# Altium schematic symbol library SparkFun-Connectors.SCHLIB: 462 symbols (part 11 of 13)
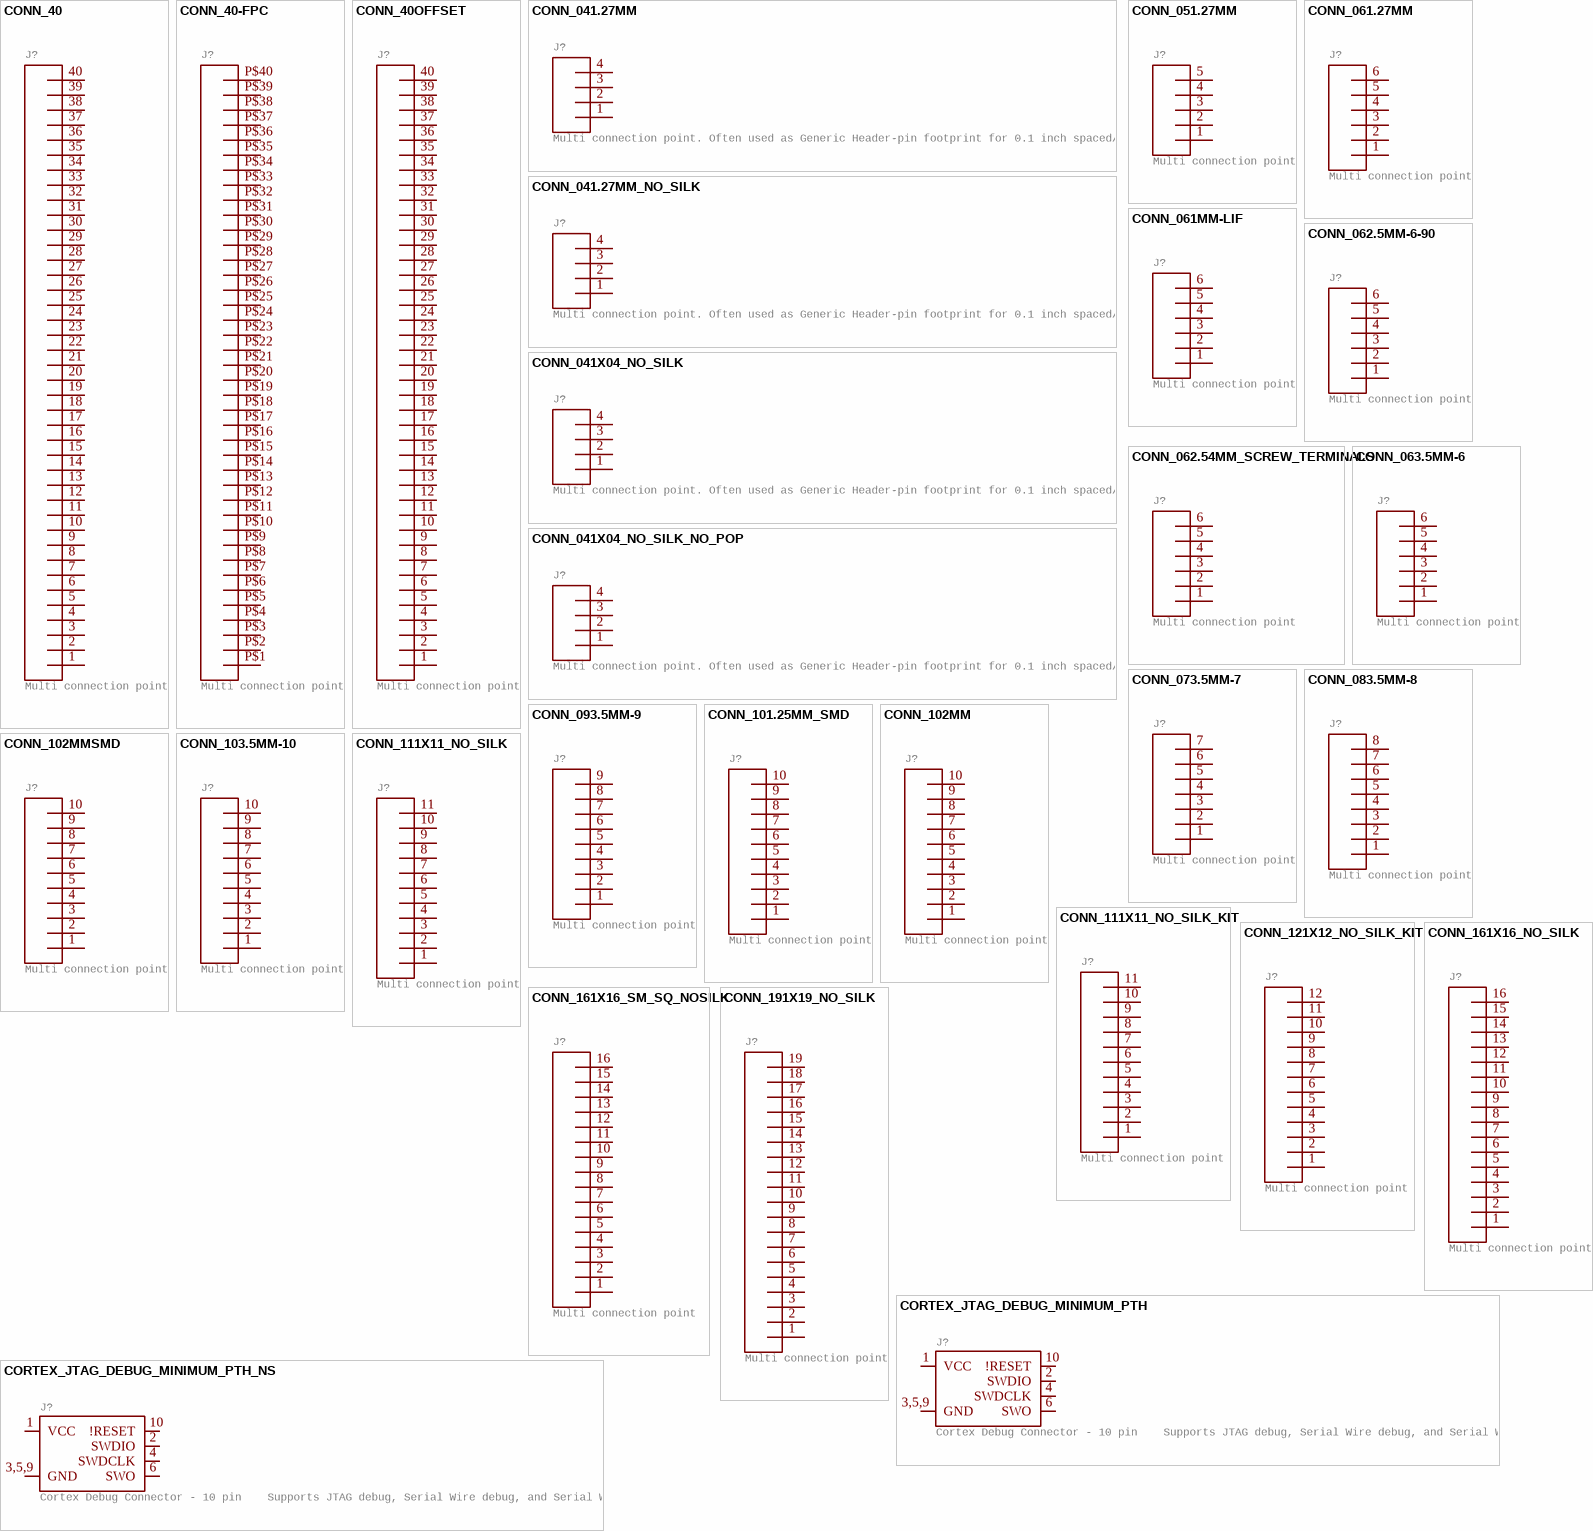
[diagram p32: symbols CONN_40 to CORTEX_JTAG_DEBUG_MINIMUM_PTH_NS]

## CONN_083.5MM-8
designator J?, comment Multi connection point. Often used as Generic Header-pin footprint for 0.1 inch spaced/style header connections    On any of the 0.1 inch spaced packages, you can populate with these:  Break Away Headers - Straight (PRT-00116)   Break Away Male Headers - Right Angle (PRT-00553)   Female Headers (PRT-00115)   Break Away Headers - Machine Pin (PRT-00117)   Break Away Female Headers - Swiss Machine Pin (PRT-00743)   Arduino Stackable Header - 8 Pin (PRT-09279)        For SCREWTERMINALS and SPRING TERMINALS visit here:  Screw Terimnals on SparkFun.com (5mm/3.5mm/2.54mm spacing)       This device is also useful as a general connection point to wire up your design to another part of your project. Our various solder wires solder well into these plated through hole pads.  Hook-Up Wire - Assortment (Stranded, 22 AWG) (PRT-11375)   Hook-Up Wire - Assortment (Solid Core, 22 AWG) (PRT-11367)   View the entire wire category on our website here          Special notes:     Molex polarized connector foot print use with SKU : PRT-08231 with associated crimp pins and housings. 1MM SMD Version SKU: PRT-10208    NOTES ON THE VARIANTS LOCK and LOCK_LONGPADS... This footprint was designed to help hold the alignment of a through-hole component (i.e.  6-pin header) while soldering it into place. You may notice that each hole has been shifted either up or down by 0.005 of an inch from it's more standard position (which is a perfectly straight line).  This slight alteration caused the pins (the squares in the middle) to touch the edges of the holes.  Because they are alternating, it causes a "brace" to hold the component in place.  0.005 has proven to be the perfect amount of "off-center" position when using our standard breakaway headers. Although looks a little odd when you look at the bare footprint, once you have a header in there, the alteration is very hard to notice.  Also,if you push a header all the way into place, it is covered up entirely on the bottom side.
GateName_1: G$1; SymbolName_1: CONN_08; DeviceName: 3.5MM-8; PROD_ID: Combine 14485+14885; LibraryName: SparkFun-Connectors; DeviceSetName: CONN_08; Package: SCREWTERMINAL-3.5MM-8
footprint SCREWTERMINAL-3.5MM-8
pins: 1, 2, 3, 4, 5, 6, 7, 8

## CONN_093.5MM-9
designator J?, comment Multi connection point. Often used as Generic Header-pin footprint for 0.1 inch spaced/style header connections    On any of the 0.1 inch spaced packages, you can populate with these:  Break Away Headers - Straight (PRT-00116)   Break Away Male Headers - Right Angle (PRT-00553)   Female Headers (PRT-00115)   Break Away Headers - Machine Pin (PRT-00117)   Break Away Female Headers - Swiss Machine Pin (PRT-00743)        For SCREWTERMINALS and SPRING TERMINALS visit here:  Screw Terimnals on SparkFun.com (5mm/3.5mm/2.54mm spacing)       This device is also useful as a general connection point to wire up your design to another part of your project. Our various solder wires solder well into these plated through hole pads.  Hook-Up Wire - Assortment (Stranded, 22 AWG) (PRT-11375)   Hook-Up Wire - Assortment (Solid Core, 22 AWG) (PRT-11367)   View the entire wire category on our website here          Special notes:     Molex polarized connector foot print use with SKU : PRT-08231 with associated crimp pins and housings. 1MM SMD Version SKU: PRT-10208    NOTES ON THE VARIANTS LOCK and LOCK_LONGPADS... This footprint was designed to help hold the alignment of a through-hole component (i.e.  6-pin header) while soldering it into place. You may notice that each hole has been shifted either up or down by 0.005 of an inch from it's more standard position (which is a perfectly straight line).  This slight alteration caused the pins (the squares in the middle) to touch the edges of the holes.  Because they are alternating, it causes a "brace" to hold the component in place.  0.005 has proven to be the perfect amount of "off-center" position when using our standard breakaway headers. Although looks a little odd when you look at the bare footprint, once you have a header in there, the alteration is very hard to notice.  Also,if you push a header all the way into place, it is covered up entirely on the bottom side.
GateName_1: J1; SymbolName_1: CONN_09; DeviceName: 3.5MM-9; PROD_ID: Combine 13617+8288; LibraryName: SparkFun-Connectors; DeviceSetName: CONN_09; Package: SCREWTERMINAL-3.5MM-9
footprint SCREWTERMINAL-3.5MM-9
pins: 1, 2, 3, 4, 5, 6, 7, 8, 9

## CONN_101.25MM_SMD
designator J?, comment Multi connection point. Often used as Generic Header-pin footprint for 0.1 inch spaced/style header connections    On any of the 0.1 inch spaced packages, you can populate with these:  Break Away Headers - Straight (PRT-00116)   Break Away Male Headers - Right Angle (PRT-00553)   Female Headers (PRT-00115)   Break Away Headers - Machine Pin (PRT-00117)   Break Away Female Headers - Swiss Machine Pin (PRT-00743)   Arduino Stackable Header - 10 Pin (PRT-11376)        For SCREWTERMINALS and SPRING TERMINALS visit here:  Screw Terimnals on SparkFun.com (5mm/3.5mm/2.54mm spacing)       This device is also useful as a general connection point to wire up your design to another part of your project. Our various solder wires solder well into these plated through hole pads.  Hook-Up Wire - Assortment (Stranded, 22 AWG) (PRT-11375)   Hook-Up Wire - Assortment (Solid Core, 22 AWG) (PRT-11367)   View the entire wire category on our website here          Special notes:     Molex polarized connector foot print use with SKU : PRT-08231 with associated crimp pins and housings. 1MM SMD Version SKU: PRT-10208    NOTES ON THE VARIANTS LOCK and LOCK_LONGPADS... This footprint was designed to help hold the alignment of a through-hole component (i.e.  6-pin header) while soldering it into place. You may notice that each hole has been shifted either up or down by 0.005 of an inch from it's more standard position (which is a perfectly straight line).  This slight alteration caused the pins (the squares in the middle) to touch the edges of the holes.  Because they are alternating, it causes a "brace" to hold the component in place.  0.005 has proven to be the perfect amount of "off-center" position when using our standard breakaway headers. Although looks a little odd when you look at the bare footprint, once you have a header in there, the alteration is very hard to notice.  Also,if you push a header all the way into place, it is covered up entirely on the bottom side.
GateName_1: J1; SymbolName_1: CONN_10; DeviceName: 1.25MM_SMD; LibraryName: SparkFun-Connectors; DeviceSetName: CONN_10; Package: 1X10-1.25MM-SMD
footprint 1X10-1.25MM-SMD
pins: 1, 2, 3, 4, 5, 6, 7, 8, 9, 10

## CONN_102MM
designator J?, comment Multi connection point. Often used as Generic Header-pin footprint for 0.1 inch spaced/style header connections    On any of the 0.1 inch spaced packages, you can populate with these:  Break Away Headers - Straight (PRT-00116)   Break Away Male Headers - Right Angle (PRT-00553)   Female Headers (PRT-00115)   Break Away Headers - Machine Pin (PRT-00117)   Break Away Female Headers - Swiss Machine Pin (PRT-00743)   Arduino Stackable Header - 10 Pin (PRT-11376)        For SCREWTERMINALS and SPRING TERMINALS visit here:  Screw Terimnals on SparkFun.com (5mm/3.5mm/2.54mm spacing)       This device is also useful as a general connection point to wire up your design to another part of your project. Our various solder wires solder well into these plated through hole pads.  Hook-Up Wire - Assortment (Stranded, 22 AWG) (PRT-11375)   Hook-Up Wire - Assortment (Solid Core, 22 AWG) (PRT-11367)   View the entire wire category on our website here          Special notes:     Molex polarized connector foot print use with SKU : PRT-08231 with associated crimp pins and housings. 1MM SMD Version SKU: PRT-10208    NOTES ON THE VARIANTS LOCK and LOCK_LONGPADS... This footprint was designed to help hold the alignment of a through-hole component (i.e.  6-pin header) while soldering it into place. You may notice that each hole has been shifted either up or down by 0.005 of an inch from it's more standard position (which is a perfectly straight line).  This slight alteration caused the pins (the squares in the middle) to touch the edges of the holes.  Because they are alternating, it causes a "brace" to hold the component in place.  0.005 has proven to be the perfect amount of "off-center" position when using our standard breakaway headers. Although looks a little odd when you look at the bare footprint, once you have a header in there, the alteration is very hard to notice.  Also,if you push a header all the way into place, it is covered up entirely on the bottom side.
GateName_1: J1; SymbolName_1: CONN_10; DeviceName: 2MM; PROD_ID: CONN-08875; SF_ID: PRT-08272; LibraryName: SparkFun-Connectors; DeviceSetName: CONN_10; Package: 1X10-2MM
footprint 1X10-2MM
pins: 1, 2, 3, 4, 5, 6, 7, 8, 9, 10

## CONN_102MMSMD
designator J?, comment Multi connection point. Often used as Generic Header-pin footprint for 0.1 inch spaced/style header connections    On any of the 0.1 inch spaced packages, you can populate with these:  Break Away Headers - Straight (PRT-00116)   Break Away Male Headers - Right Angle (PRT-00553)   Female Headers (PRT-00115)   Break Away Headers - Machine Pin (PRT-00117)   Break Away Female Headers - Swiss Machine Pin (PRT-00743)   Arduino Stackable Header - 10 Pin (PRT-11376)        For SCREWTERMINALS and SPRING TERMINALS visit here:  Screw Terimnals on SparkFun.com (5mm/3.5mm/2.54mm spacing)       This device is also useful as a general connection point to wire up your design to another part of your project. Our various solder wires solder well into these plated through hole pads.  Hook-Up Wire - Assortment (Stranded, 22 AWG) (PRT-11375)   Hook-Up Wire - Assortment (Solid Core, 22 AWG) (PRT-11367)   View the entire wire category on our website here          Special notes:     Molex polarized connector foot print use with SKU : PRT-08231 with associated crimp pins and housings. 1MM SMD Version SKU: PRT-10208    NOTES ON THE VARIANTS LOCK and LOCK_LONGPADS... This footprint was designed to help hold the alignment of a through-hole component (i.e.  6-pin header) while soldering it into place. You may notice that each hole has been shifted either up or down by 0.005 of an inch from it's more standard position (which is a perfectly straight line).  This slight alteration caused the pins (the squares in the middle) to touch the edges of the holes.  Because they are alternating, it causes a "brace" to hold the component in place.  0.005 has proven to be the perfect amount of "off-center" position when using our standard breakaway headers. Although looks a little odd when you look at the bare footprint, once you have a header in there, the alteration is very hard to notice.  Also,if you push a header all the way into place, it is covered up entirely on the bottom side.
GateName_1: J1; SymbolName_1: CONN_10; DeviceName: 2MMSMD; PROD_ID: CONN-09042; SF_ID: PRT-10030; LibraryName: SparkFun-Connectors; DeviceSetName: CONN_10; Package: 1X10-2MM-SMD
footprint 1X10-2MM-SMD
pins: 1, 2, 3, 4, 5, 6, 7, 8, 9, 10

## CONN_103.5MM-10
designator J?, comment Multi connection point. Often used as Generic Header-pin footprint for 0.1 inch spaced/style header connections    On any of the 0.1 inch spaced packages, you can populate with these:  Break Away Headers - Straight (PRT-00116)   Break Away Male Headers - Right Angle (PRT-00553)   Female Headers (PRT-00115)   Break Away Headers - Machine Pin (PRT-00117)   Break Away Female Headers - Swiss Machine Pin (PRT-00743)   Arduino Stackable Header - 10 Pin (PRT-11376)        For SCREWTERMINALS and SPRING TERMINALS visit here:  Screw Terimnals on SparkFun.com (5mm/3.5mm/2.54mm spacing)       This device is also useful as a general connection point to wire up your design to another part of your project. Our various solder wires solder well into these plated through hole pads.  Hook-Up Wire - Assortment (Stranded, 22 AWG) (PRT-11375)   Hook-Up Wire - Assortment (Solid Core, 22 AWG) (PRT-11367)   View the entire wire category on our website here          Special notes:     Molex polarized connector foot print use with SKU : PRT-08231 with associated crimp pins and housings. 1MM SMD Version SKU: PRT-10208    NOTES ON THE VARIANTS LOCK and LOCK_LONGPADS... This footprint was designed to help hold the alignment of a through-hole component (i.e.  6-pin header) while soldering it into place. You may notice that each hole has been shifted either up or down by 0.005 of an inch from it's more standard position (which is a perfectly straight line).  This slight alteration caused the pins (the squares in the middle) to touch the edges of the holes.  Because they are alternating, it causes a "brace" to hold the component in place.  0.005 has proven to be the perfect amount of "off-center" position when using our standard breakaway headers. Although looks a little odd when you look at the bare footprint, once you have a header in there, the alteration is very hard to notice.  Also,if you push a header all the way into place, it is covered up entirely on the bottom side.
GateName_1: J1; SymbolName_1: CONN_10; DeviceName: 3.5MM-10; PROD_ID: CONN-13177; LibraryName: SparkFun-Connectors; DeviceSetName: CONN_10; Package: SCREWTERMINAL-3.5MM-10
footprint SCREWTERMINAL-3.5MM-10
pins: 1, 2, 3, 4, 5, 6, 7, 8, 9, 10

## CONN_111X11_NO_SILK
designator J?, comment Multi connection point. Often used as Generic Header-pin footprint for 0.1 inch spaced/style header connections    On any of the 0.1 inch spaced packages, you can populate with these:  Break Away Headers - Straight (PRT-00116)   Break Away Male Headers - Right Angle (PRT-00553)   Female Headers (PRT-00115)   Break Away Headers - Machine Pin (PRT-00117)   Break Away Female Headers - Swiss Machine Pin (PRT-00743)        For SCREWTERMINALS and SPRING TERMINALS visit here:  Screw Terimnals on SparkFun.com (5mm/3.5mm/2.54mm spacing)       This device is also useful as a general connection point to wire up your design to another part of your project. Our various solder wires solder well into these plated through hole pads.  Hook-Up Wire - Assortment (Stranded, 22 AWG) (PRT-11375)   Hook-Up Wire - Assortment (Solid Core, 22 AWG) (PRT-11367)   View the entire wire category on our website here
GateName_1: G$1; SymbolName_1: CONN_11; DeviceName: 1X11_NO_SILK; LibraryName: SparkFun-Connectors; DeviceSetName: CONN_11; Package: 1X11_NO_SILK
footprint 1X11_NO_SILK
pins: 1, 2, 3, 4, 5, 6, 7, 8, 9, 10, 11

## CONN_111X11_NO_SILK_KIT
designator J?, comment Multi connection point. Often used as Generic Header-pin footprint for 0.1 inch spaced/style header connections    On any of the 0.1 inch spaced packages, you can populate with these:  Break Away Headers - Straight (PRT-00116)   Break Away Male Headers - Right Angle (PRT-00553)   Female Headers (PRT-00115)   Break Away Headers - Machine Pin (PRT-00117)   Break Away Female Headers - Swiss Machine Pin (PRT-00743)        For SCREWTERMINALS and SPRING TERMINALS visit here:  Screw Terimnals on SparkFun.com (5mm/3.5mm/2.54mm spacing)       This device is also useful as a general connection point to wire up your design to another part of your project. Our various solder wires solder well into these plated through hole pads.  Hook-Up Wire - Assortment (Stranded, 22 AWG) (PRT-11375)   Hook-Up Wire - Assortment (Solid Core, 22 AWG) (PRT-11367)   View the entire wire category on our website here
GateName_1: G$1; SymbolName_1: CONN_11; DeviceName: 1X11_NO_SILK_KIT; LibraryName: SparkFun-Connectors; DeviceSetName: CONN_11; Package: 1X11_NO_SILK_KIT
footprint 1X11_NO_SILK_KIT
pins: 1, 2, 3, 4, 5, 6, 7, 8, 9, 10, 11

## CONN_121X12_NO_SILK_KIT
designator J?, comment Multi connection point. Often used as Generic Header-pin footprint for 0.1 inch spaced/style header connections    On any of the 0.1 inch spaced packages, you can populate with these:  Break Away Headers - Straight (PRT-00116)   Break Away Male Headers - Right Angle (PRT-00553)   Female Headers (PRT-00115)   Break Away Headers - Machine Pin (PRT-00117)   Break Away Female Headers - Swiss Machine Pin (PRT-00743)        For SCREWTERMINALS and SPRING TERMINALS visit here:  Screw Terimnals on SparkFun.com (5mm/3.5mm/2.54mm spacing)       This device is also useful as a general connection point to wire up your design to another part of your project. Our various solder wires solder well into these plated through hole pads.  Hook-Up Wire - Assortment (Stranded, 22 AWG) (PRT-11375)   Hook-Up Wire - Assortment (Solid Core, 22 AWG) (PRT-11367)   View the entire wire category on our website here          Special notes:     Molex polarized connector foot print use with SKU : PRT-08231 with associated crimp pins and housings. 1MM SMD Version SKU: PRT-10208    NOTES ON THE VARIANTS LOCK and LOCK_LONGPADS... This footprint was designed to help hold the alignment of a through-hole component (i.e.  6-pin header) while soldering it into place. You may notice that each hole has been shifted either up or down by 0.005 of an inch from it's more standard position (which is a perfectly straight line).  This slight alteration caused the pins (the squares in the middle) to touch the edges of the holes.  Because they are alternating, it causes a "brace" to hold the component in place.  0.005 has proven to be the perfect amount of "off-center" position when using our standard breakaway headers. Although looks a little odd when you look at the bare footprint, once you have a header in there, the alteration is very hard to notice.  Also,if you push a header all the way into place, it is covered up entirely on the bottom side.
GateName_1: G$1; SymbolName_1: CONN_12; DeviceName: 1X12_NO_SILK_KIT; LibraryName: SparkFun-Connectors; DeviceSetName: CONN_12; Package: 1X12_NO_SILK_KIT
footprint 1X12_NO_SILK_KIT
pins: 1, 2, 3, 4, 5, 6, 7, 8, 9, 10, 11, 12

## CONN_161X16_NO_SILK
designator J?, comment Multi connection point. Often used as Generic Header-pin footprint for 0.1 inch spaced/style header connections    On any of the 0.1 inch spaced packages, you can populate with these:  Break Away Headers - Straight (PRT-00116)   Break Away Male Headers - Right Angle (PRT-00553)   Female Headers (PRT-00115)   Break Away Headers - Machine Pin (PRT-00117)   Break Away Female Headers - Swiss Machine Pin (PRT-00743)        For SCREWTERMINALS and SPRING TERMINALS visit here:  Screw Terimnals on SparkFun.com (5mm/3.5mm/2.54mm spacing)       This device is also useful as a general connection point to wire up your design to another part of your project. Our various solder wires solder well into these plated through hole pads.  Hook-Up Wire - Assortment (Stranded, 22 AWG) (PRT-11375)   Hook-Up Wire - Assortment (Solid Core, 22 AWG) (PRT-11367)   View the entire wire category on our website here          Special notes:     Molex polarized connector foot print use with SKU : PRT-08231 with associated crimp pins and housings. 1MM SMD Version SKU: PRT-10208    NOTES ON THE VARIANTS LOCK and LOCK_LONGPADS... This footprint was designed to help hold the alignment of a through-hole component (i.e.  6-pin header) while soldering it into place. You may notice that each hole has been shifted either up or down by 0.005 of an inch from it's more standard position (which is a perfectly straight line).  This slight alteration caused the pins (the squares in the middle) to touch the edges of the holes.  Because they are alternating, it causes a "brace" to hold the component in place.  0.005 has proven to be the perfect amount of "off-center" position when using our standard breakaway headers. Although looks a little odd when you look at the bare footprint, once you have a header in there, the alteration is very hard to notice.  Also,if you push a header all the way into place, it is covered up entirely on the bottom side.
GateName_1: G$1; SymbolName_1: CONN_16; DeviceName: 1X16_NO_SILK; LibraryName: SparkFun-Connectors; DeviceSetName: CONN_16; Package: 1X16_NO_SILK
footprint 1X16_NO_SILK
pins: 1, 2, 3, 4, 5, 6, 7, 8, 9, 10, 11, 12, 13, 14, 15, 16

## CONN_161X16_SM_SQ_NOSILK
designator J?, comment Multi connection point. Often used as Generic Header-pin footprint for 0.1 inch spaced/style header connections    On any of the 0.1 inch spaced packages, you can populate with these:  Break Away Headers - Straight (PRT-00116)   Break Away Male Headers - Right Angle (PRT-00553)   Female Headers (PRT-00115)   Break Away Headers - Machine Pin (PRT-00117)   Break Away Female Headers - Swiss Machine Pin (PRT-00743)        For SCREWTERMINALS and SPRING TERMINALS visit here:  Screw Terimnals on SparkFun.com (5mm/3.5mm/2.54mm spacing)       This device is also useful as a general connection point to wire up your design to another part of your project. Our various solder wires solder well into these plated through hole pads.  Hook-Up Wire - Assortment (Stranded, 22 AWG) (PRT-11375)   Hook-Up Wire - Assortment (Solid Core, 22 AWG) (PRT-11367)   View the entire wire category on our website here          Special notes:     Molex polarized connector foot print use with SKU : PRT-08231 with associated crimp pins and housings. 1MM SMD Version SKU: PRT-10208    NOTES ON THE VARIANTS LOCK and LOCK_LONGPADS... This footprint was designed to help hold the alignment of a through-hole component (i.e.  6-pin header) while soldering it into place. You may notice that each hole has been shifted either up or down by 0.005 of an inch from it's more standard position (which is a perfectly straight line).  This slight alteration caused the pins (the squares in the middle) to touch the edges of the holes.  Because they are alternating, it causes a "brace" to hold the component in place.  0.005 has proven to be the perfect amount of "off-center" position when using our standard breakaway headers. Although looks a little odd when you look at the bare footprint, once you have a header in there, the alteration is very hard to notice.  Also,if you push a header all the way into place, it is covered up entirely on the bottom side.
GateName_1: G$1; SymbolName_1: CONN_16; DeviceName: 1X16_SM_SQ_NOSILK; LibraryName: SparkFun-Connectors; DeviceSetName: CONN_16; Package: 1X16_SM_SQ_NOSILK
footprint 1X16_SM_SQ_NOSILK
pins: 1, 2, 3, 4, 5, 6, 7, 8, 9, 10, 11, 12, 13, 14, 15, 16

## CONN_191X19_NO_SILK
designator J?, comment Multi connection point. Often used as Generic Header-pin footprint for 0.1 inch spaced/style header connections    On any of the 0.1 inch spaced packages, you can populate with these:  Break Away Headers - Straight (PRT-00116)   Break Away Male Headers - Right Angle (PRT-00553)   Female Headers (PRT-00115)   Break Away Headers - Machine Pin (PRT-00117)   Break Away Female Headers - Swiss Machine Pin (PRT-00743)        For SCREWTERMINALS and SPRING TERMINALS visit here:  Screw Terimnals on SparkFun.com (5mm/3.5mm/2.54mm spacing)       This device is also useful as a general connection point to wire up your design to another part of your project. Our various solder wires solder well into these plated through hole pads.  Hook-Up Wire - Assortment (Stranded, 22 AWG) (PRT-11375)   Hook-Up Wire - Assortment (Solid Core, 22 AWG) (PRT-11367)   View the entire wire category on our website here          Special notes:     Molex polarized connector foot print use with SKU : PRT-08231 with associated crimp pins and housings. 1MM SMD Version SKU: PRT-10208    NOTES ON THE VARIANTS LOCK and LOCK_LONGPADS... This footprint was designed to help hold the alignment of a through-hole component (i.e.  6-pin header) while soldering it into place. You may notice that each hole has been shifted either up or down by 0.005 of an inch from it's more standard position (which is a perfectly straight line).  This slight alteration caused the pins (the squares in the middle) to touch the edges of the holes.  Because they are alternating, it causes a "brace" to hold the component in place.  0.005 has proven to be the perfect amount of "off-center" position when using our standard breakaway headers. Although looks a little odd when you look at the bare footprint, once you have a header in there, the alteration is very hard to notice.  Also,if you push a header all the way into place, it is covered up entirely on the bottom side.
GateName_1: G$1; SymbolName_1: CONN_19; DeviceName: 1X19_NO_SILK; LibraryName: SparkFun-Connectors; DeviceSetName: CONN_19; Package: 1X19_NO_SILK
footprint 1X19_NO_SILK
pins: 1, 2, 3, 4, 5, 6, 7, 8, 9, 10, 11, 12, 13, 14, 15, 16, 17, 18, 19

## CORTEX_JTAG_DEBUG_MINIMUM_PTH
designator J?, comment Cortex Debug Connector - 10 pin    Supports JTAG debug, Serial Wire debug, and Serial Wire Viewer. PTH and SMD connector options available.    General Connector Information    Products: PTH Connector -via Digi-Key  SparkFun PSoc  SparkFun T
GateName_1: G$1; SymbolName_1: CORTEX_DEBUG_MINIMUM; DeviceName: _PTH; DeviceSetName: CORTEX_JTAG_DEBUG_MINIMUM; LibraryName: SparkFun-Connectors; Package: 2X5-PTH-1.27MM
footprint 2X5-PTH-1.27MM
pins: 1 VCC (io), 2 SWDIO (io), 3,5,9 GND (io), 4 SWDCLK (io), 6 SWO (io), 10 !RESET (io)

## CORTEX_JTAG_DEBUG_MINIMUM_PTH_NS
designator J?, comment Cortex Debug Connector - 10 pin    Supports JTAG debug, Serial Wire debug, and Serial Wire Viewer. PTH and SMD connector options available.    General Connector Information    Products: PTH Connector -via Digi-Key  SparkFun PSoc  SparkFun T
GateName_1: G$1; SymbolName_1: CORTEX_DEBUG_MINIMUM; DeviceName: _PTH_NS; DeviceSetName: CORTEX_JTAG_DEBUG_MINIMUM; LibraryName: SparkFun-Connectors; Package: 2X5-PTH-1.27MM-NO_SILK
footprint 2X5-PTH-1.27MM-NO_SILK
pins: 1 VCC (io), 2 SWDIO (io), 3,5,9 GND (io), 4 SWDCLK (io), 6 SWO (io), 10 !RESET (io)

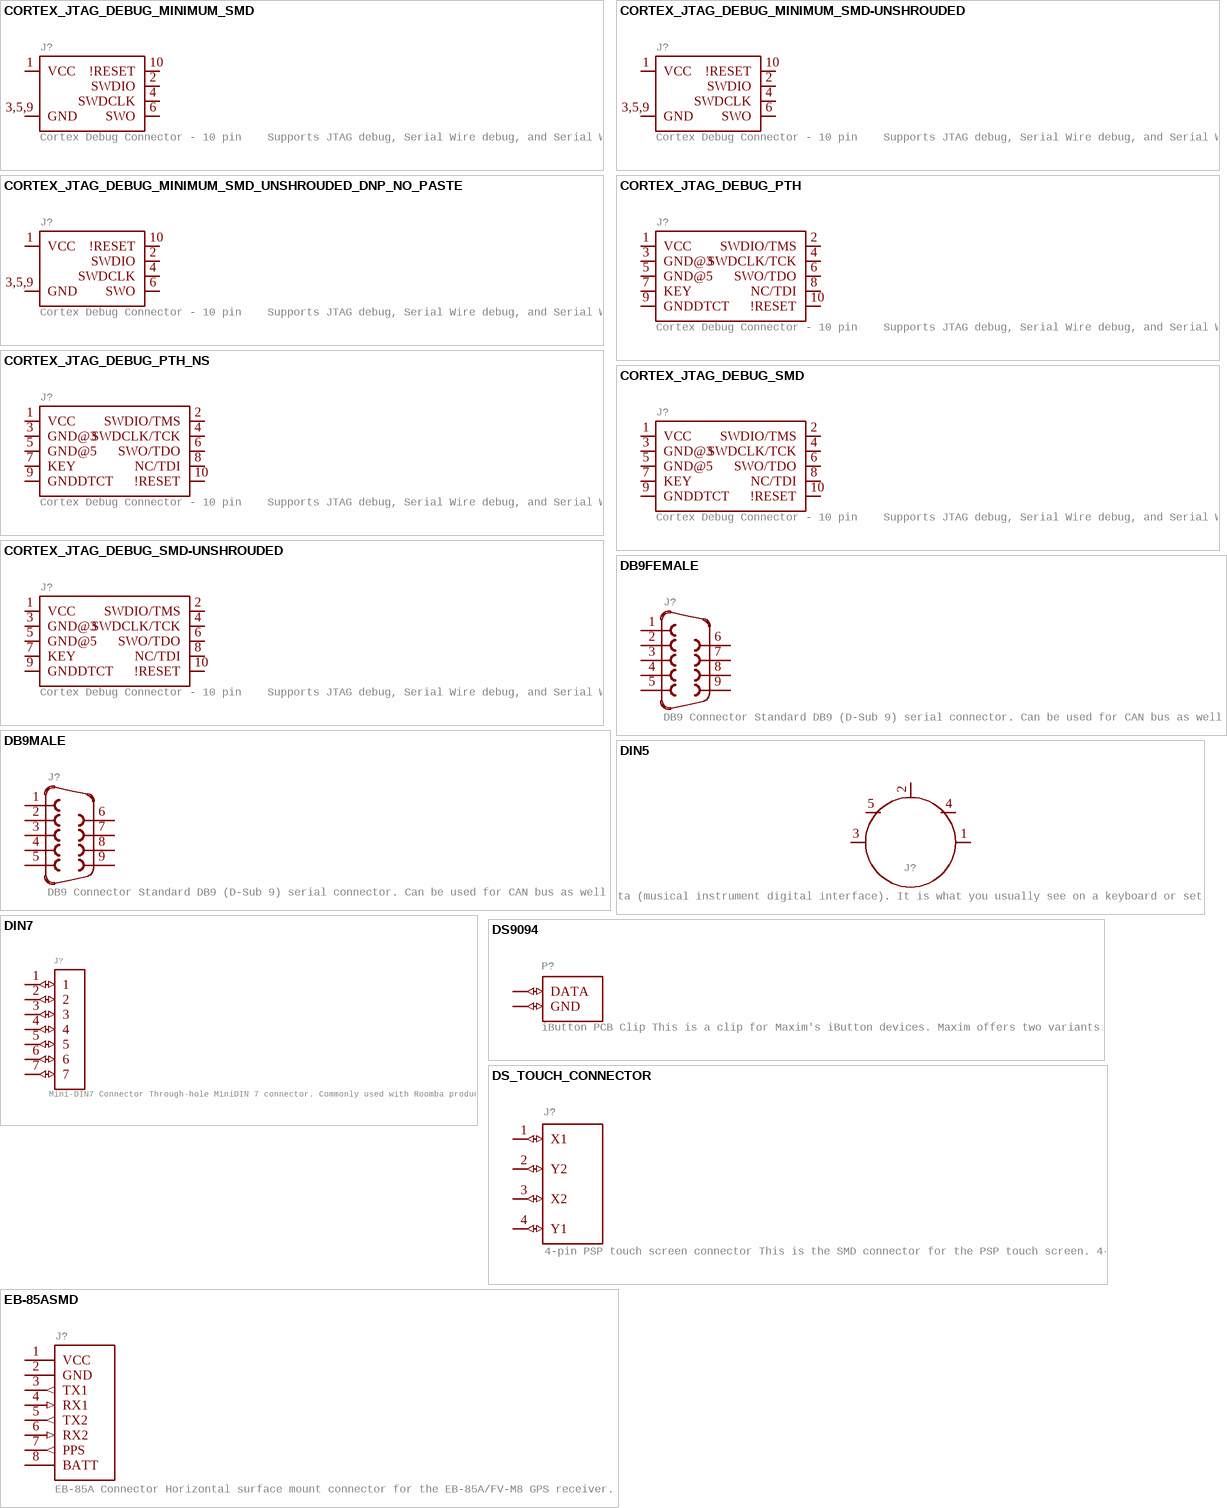
[diagram p14: symbols CORTEX_JTAG_DEBUG_MINIMUM_SMD to EB-85ASMD]

## CORTEX_JTAG_DEBUG_MINIMUM_SMD
designator J?, comment Cortex Debug Connector - 10 pin    Supports JTAG debug, Serial Wire debug, and Serial Wire Viewer. PTH and SMD connector options available.    General Connector Information    Products: PTH Connector -via Digi-Key  SparkFun PSoc  SparkFun T
GateName_1: G$1; SymbolName_1: CORTEX_DEBUG_MINIMUM; DeviceName: _SMD; DeviceSetName: CORTEX_JTAG_DEBUG_MINIMUM; PROD_ID: CONN-14503; LibraryName: SparkFun-Connectors; Package: 2X5-SMD-1.27MM
footprint 2X5-SMD-1.27MM
pins: 1 VCC (io), 2 SWDIO (io), 3,5,9 GND (io), 4 SWDCLK (io), 6 SWO (io), 10 !RESET (io)

## CORTEX_JTAG_DEBUG_MINIMUM_SMD-UNSHROUDED
designator J?, comment Cortex Debug Connector - 10 pin    Supports JTAG debug, Serial Wire debug, and Serial Wire Viewer. PTH and SMD connector options available.    General Connector Information    Products: PTH Connector -via Digi-Key  SparkFun PSoc  SparkFun T
GateName_1: G$1; SymbolName_1: CORTEX_DEBUG_MINIMUM; DeviceName: _SMD-UNSHROUDED; DeviceSetName: CORTEX_JTAG_DEBUG_MINIMUM; PROD_ID: CONN-15353; LibraryName: SparkFun-Connectors; Package: 2X5-SMD-UNSHROUDED
footprint 2X5-SMD-UNSHROUDED
pins: 1 VCC (io), 2 SWDIO (io), 3,5,9 GND (io), 4 SWDCLK (io), 6 SWO (io), 10 !RESET (io)

## CORTEX_JTAG_DEBUG_MINIMUM_SMD_UNSHROUDED_DNP_NO_PASTE
designator J?, comment Cortex Debug Connector - 10 pin    Supports JTAG debug, Serial Wire debug, and Serial Wire Viewer. PTH and SMD connector options available.    General Connector Information    Products: PTH Connector -via Digi-Key  SparkFun PSoc  SparkFun T
GateName_1: G$1; SymbolName_1: CORTEX_DEBUG_MINIMUM; DeviceName: _SMD_UNSHROUDED_DNP_NO_PASTE; DeviceSetName: CORTEX_JTAG_DEBUG_MINIMUM; LibraryName: SparkFun-Connectors; Package: 2X5-SMD-UNSHROUDED_DNP_NO_PASTE
footprint 2X5-SMD-UNSHROUDED_DNP_NO_PASTE
pins: 1 VCC (io), 2 SWDIO (io), 3,5,9 GND (io), 4 SWDCLK (io), 6 SWO (io), 10 !RESET (io)

## CORTEX_JTAG_DEBUG_PTH
designator J?, comment Cortex Debug Connector - 10 pin    Supports JTAG debug, Serial Wire debug, and Serial Wire Viewer. PTH and SMD connector options available.    General Connector Information    Products: PTH Connector -via Digi-Key  SparkFun PSoc  SparkFun T
GateName_1: J1; SymbolName_1: CORTEX_DEBUG; DeviceName: _PTH; DeviceSetName: CORTEX_JTAG_DEBUG; LibraryName: SparkFun-Connectors; Package: 2X5-PTH-1.27MM
footprint 2X5-PTH-1.27MM
pins: 1 VCC (io), 2 SWDIO/TMS (io), 3 GND@3 (io), 4 SWDCLK/TCK (io), 5 GND@5 (io), 6 SWO/TDO (io), 7 KEY (io), 8 NC/TDI (io), 9 GNDDTCT (io), 10 !RESET (io)

## CORTEX_JTAG_DEBUG_PTH_NS
designator J?, comment Cortex Debug Connector - 10 pin    Supports JTAG debug, Serial Wire debug, and Serial Wire Viewer. PTH and SMD connector options available.    General Connector Information    Products: PTH Connector -via Digi-Key  SparkFun PSoc  SparkFun T
GateName_1: J1; SymbolName_1: CORTEX_DEBUG; DeviceName: _PTH_NS; DeviceSetName: CORTEX_JTAG_DEBUG; LibraryName: SparkFun-Connectors; Package: 2X5-PTH-1.27MM-NO_SILK
footprint 2X5-PTH-1.27MM-NO_SILK
pins: 1 VCC (io), 2 SWDIO/TMS (io), 3 GND@3 (io), 4 SWDCLK/TCK (io), 5 GND@5 (io), 6 SWO/TDO (io), 7 KEY (io), 8 NC/TDI (io), 9 GNDDTCT (io), 10 !RESET (io)

## CORTEX_JTAG_DEBUG_SMD
designator J?, comment Cortex Debug Connector - 10 pin    Supports JTAG debug, Serial Wire debug, and Serial Wire Viewer. PTH and SMD connector options available.    General Connector Information    Products: PTH Connector -via Digi-Key  SparkFun PSoc  SparkFun T
GateName_1: J1; SymbolName_1: CORTEX_DEBUG; DeviceName: _SMD; DeviceSetName: CORTEX_JTAG_DEBUG; PROD_ID: CONN-14503; LibraryName: SparkFun-Connectors; Package: 2X5-SMD-1.27MM
footprint 2X5-SMD-1.27MM
pins: 1 VCC (io), 2 SWDIO/TMS (io), 3 GND@3 (io), 4 SWDCLK/TCK (io), 5 GND@5 (io), 6 SWO/TDO (io), 7 KEY (io), 8 NC/TDI (io), 9 GNDDTCT (io), 10 !RESET (io)

## CORTEX_JTAG_DEBUG_SMD-UNSHROUDED
designator J?, comment Cortex Debug Connector - 10 pin    Supports JTAG debug, Serial Wire debug, and Serial Wire Viewer. PTH and SMD connector options available.    General Connector Information    Products: PTH Connector -via Digi-Key  SparkFun PSoc  SparkFun T
GateName_1: J1; SymbolName_1: CORTEX_DEBUG; DeviceName: _SMD-UNSHROUDED; DeviceSetName: CORTEX_JTAG_DEBUG; PROD_ID: CONN-15353; LibraryName: SparkFun-Connectors; Package: 2X5-SMD-UNSHROUDED
footprint 2X5-SMD-UNSHROUDED
pins: 1 VCC (io), 2 SWDIO/TMS (io), 3 GND@3 (io), 4 SWDCLK/TCK (io), 5 GND@5 (io), 6 SWO/TDO (io), 7 KEY (io), 8 NC/TDI (io), 9 GNDDTCT (io), 10 !RESET (io)

## DB9FEMALE
designator J?, comment DB9 Connector Standard DB9 (D-Sub 9) serial connector. Can be used for CAN bus as well as RS485 and RS232. Footprint production proven.    Here is the female version connector we sell at SparkFun:  9 Pin Female Serial Connector - PCB Mount (PRT-00429)       This connector has been used on the following SparkFun products: SparkFun RS232 Shifter - SMD (PRT-00449)   SparkFun RS232 Shifter SMD (No DB9) (PRT-08780)
GateName_1: G$1; SymbolName_1: F09G; PROD_ID: CONN-08194; DeviceName: FEMALE; LibraryName: SparkFun-Connectors; DeviceSetName: DB9; Package: DB9
footprint DB9
pins: 1, 2, 3, 4, 5, 6, 7, 8, 9

## DB9MALE
designator J?, comment DB9 Connector Standard DB9 (D-Sub 9) serial connector. Can be used for CAN bus as well as RS485 and RS232. Footprint production proven.    Here is the female version connector we sell at SparkFun:  9 Pin Female Serial Connector - PCB Mount (PRT-00429)       This connector has been used on the following SparkFun products: SparkFun RS232 Shifter - SMD (PRT-00449)   SparkFun RS232 Shifter SMD (No DB9) (PRT-08780)
GateName_1: G$1; SymbolName_1: F09G; DeviceName: MALE; PROD_ID: CONN-09904; LibraryName: SparkFun-Connectors; DeviceSetName: DB9; Package: DB9_MALE
footprint DB9_MALE
pins: 1, 2, 3, 4, 5, 6, 7, 8, 9

## DIN5
designator J?, comment DIN5 Connector - Female Right Angle (frequently used as a MIDI Jack connector) This type of connector and cable is frequently used for transmitting midi data (musical instrument digital interface). It is what you usually see on a keyboard or set of electronic drums. Learn more here.   For more information on the pinout and electrical specifications of MIDI communications, please see the following resource: https://www.midi.org/specifications/item/midi-din-electrical-specification   Here is the connector we sell at SparkFun: MIDI Connector - Female Right Angle (PRT-09536)  Datasheet      It is used on this SparkFun product: SparkFun MIDI Shield (DEV-12898)
GateName_1: G$1; SymbolName_1: 5-PIN-DIN; PROD_ID: CONN-09481; LibraryName: SparkFun-Connectors; DeviceSetName: DIN5; Package: DIN5-RA-PTH
footprint DIN5-RA-PTH
pins: 1 (io), 2 (io), 3 (io), 4 (io), 5 (io)

## DIN7
designator J?, comment Mini-DIN7 Connector Through-hole MiniDIN 7 connector. Commonly used with Roomba products. Don't confuse this with DIN-6, which is commonly used on oldschool keyboards and mice.    Here is the female version connector we sell at SparkFun:  MiniDIN 7-Pin Connector (PRT-00696)
GateName_1: G$1; SymbolName_1: DIN7; PROD_ID: CONN-08318; LibraryName: SparkFun-Connectors; DeviceSetName: DIN7; Package: DIN7; SF_ID: PRT-00696
footprint DIN7
pins: 1 (io), 2 (io), 3 (io), 4 (io), 5 (io), 6 (io), 7 (io)

## DS9094
designator P?, comment iButton PCB Clip This is a clip for Maxim's iButton devices. Maxim offers two variants: a SMT one (DS9094FS+) and a PTH one (DS9094F+). This clip is compatible with F5 iButtons only.
GateName_1: G$1; SymbolName_1: DS9094; LibraryName: SparkFun-Connectors; DeviceSetName: DS9094; Package: DS9094FS
footprint DS9094FS
pins: DATA (io), GND (io)

## DS_TOUCH_CONNECTOR
designator J?, comment 4-pin PSP touch screen connector This is the SMD connector for the PSP touch screen. 4-pin right angle good, friction fit connector with 1 mm pitch. This connector is compatible with the PSP Touch Screen NOT the Sharp Color 24-Bit LCD.    Here is the connector we sell at SparkFun: Color 24-Bit LCD 4.3" PSP Touch Screen Connector (LCD-09104)       It was also used on this SparkFun product: SparkFun Nintendo DS Screen Kit (LCD-13631)
GateName_1: G$1; SymbolName_1: DS_TOUCH_CONNECTOR; LibraryName: SparkFun-Connectors; DeviceSetName: DS_TOUCH_CONNECTOR; Package: DS_TOUCH_CONNECTOR; PROD_ID: CONN-0913; SF_ID: LCD-09104
footprint DS_TOUCH_CONNECTOR
pins: 1 X1 (io), 2 Y2 (io), 3 X2 (io), 4 Y1 (io)

## EB-85ASMD
designator J?, comment EB-85A Connector Horizontal surface mount connector for the EB-85A/FV-M8 GPS receiver.    Here is the connector we sell at SparkFun: Connector Horizontal SMD for EB-85A (GPS-08297)  Datasheet      It was also used on this SparkFun product:  This connector is not on any currently live products, however it has been used on previously reitred products, so the package is proven.
GateName_1: G$1; PROD_ID: CONN-08435; SymbolName_1: EB-85A; DeviceName: SMD; LibraryName: SparkFun-Connectors; DeviceSetName: EB-85A; Package: EB-85A; SF_ID: GPS-08297
footprint EB-85A
pins: 1 VCC (power), 2 GND (power), 3 TX1 (out), 4 RX1 (in), 5 TX2 (out), 6 RX2 (in), 7 PPS (out), 8 BATT (power)

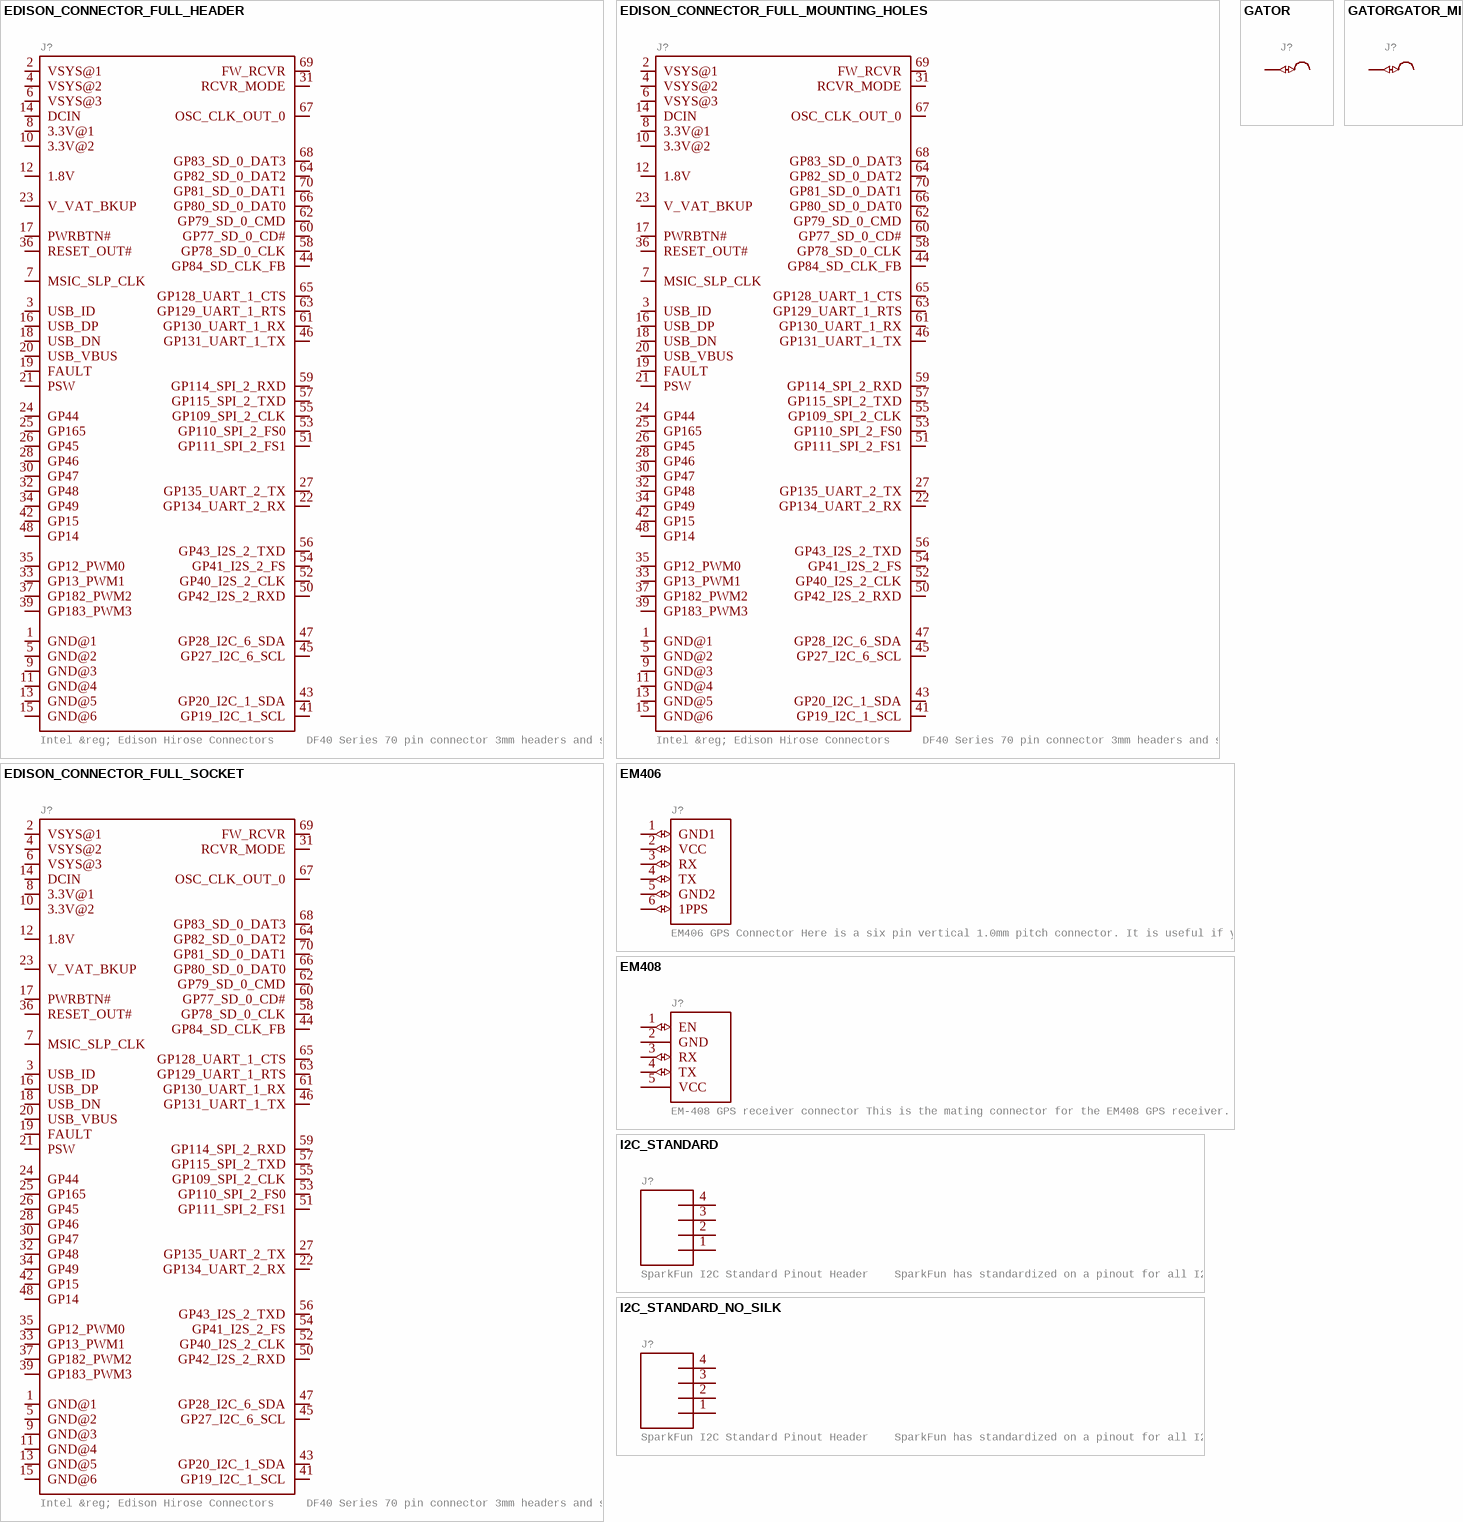
[diagram p15: symbols EDISON_CONNECTOR_FULL_HEADER to I2C_STANDARD_NO_SILK]

## EDISON_CONNECTOR_FULL_HEADER
designator J?, comment Intel &reg; Edison Hirose Connectors     DF40 Series 70 pin connector 3mm headers and sockets used on the SparkFun Edison Blocks.    Edison Daughter package includes layout for the Edison module itself, including mounting holes and antenna area marked.   SparkFun Products: SparkFun ADC Edison Block  SparkFun Power Edison Block  SparkFun Base Edison Block  SparkFun Dual H-Bridge Edison Block  SparkFun microSD Edison Block
GateName_1: G$1; SymbolName_1: EDISON_CONNECTOR; DeviceName: _HEADER; DeviceSetName: EDISON_CONNECTOR_FULL; PROD_ID: CONN-12248; LibraryName: SparkFun-Connectors; Package: DF40C-70DP-0.4(51)
footprint DF40C-70DP-0.4(51)
pins: 1 GND@1 (io), 2 VSYS@1 (io), 3 USB_ID (io), 4 VSYS@2 (io), 5 GND@2 (io), 6 VSYS@3 (io), 7 MSIC_SLP_CLK (io), 8 3.3V@1 (io), 9 GND@3 (io), 10 3.3V@2 (io), 11 GND@4 (io), 12 1.8V (io), 13 GND@5 (io), 14 DCIN (io), 15 GND@6 (io), 16 USB_DP (io), 17 PWRBTN# (io), 18 USB_DN (io), 19 FAULT (io), 20 USB_VBUS (io), 21 PSW (io), 22 GP134_UART_2_RX (io), 23 V_VAT_BKUP (io), 24 GP44 (io), 25 GP165 (io), 26 GP45 (io), 27 GP135_UART_2_TX (io), 28 GP46 (io), 30 GP47 (io), 31 RCVR_MODE (io), 32 GP48 (io), 33 GP13_PWM1 (io), 34 GP49 (io), 35 GP12_PWM0 (io), 36 RESET_OUT# (io), 37 GP182_PWM2 (io), 39 GP183_PWM3 (io), 41 GP19_I2C_1_SCL (io), 42 GP15 (io), 43 GP20_I2C_1_SDA (io), 44 GP84_SD_CLK_FB (io), 45 GP27_I2C_6_SCL (io), 46 GP131_UART_1_TX (io), 47 GP28_I2C_6_SDA (io), 48 GP14 (io), 50 GP42_I2S_2_RXD (io), 51 GP111_SPI_2_FS1 (io), 52 GP40_I2S_2_CLK (io), 53 GP110_SPI_2_FS0 (io), 54 GP41_I2S_2_FS (io), 55 GP109_SPI_2_CLK (io), 56 GP43_I2S_2_TXD (io), 57 GP115_SPI_2_TXD (io), 58 GP78_SD_0_CLK (io), 59 GP114_SPI_2_RXD (io), 60 GP77_SD_0_CD# (io), 61 GP130_UART_1_RX (io), 62 GP79_SD_0_CMD (io), 63 GP129_UART_1_RTS (io), 64 GP82_SD_0_DAT2 (io), 65 GP128_UART_1_CTS (io), 66 GP80_SD_0_DAT0 (io), 67 OSC_CLK_OUT_0 (io), 68 GP83_SD_0_DAT3 (io), 69 FW_RCVR (io), 70 GP81_SD_0_DAT1 (io)

## EDISON_CONNECTOR_FULL_MOUNTING_HOLES
designator J?, comment Intel &reg; Edison Hirose Connectors     DF40 Series 70 pin connector 3mm headers and sockets used on the SparkFun Edison Blocks.    Edison Daughter package includes layout for the Edison module itself, including mounting holes and antenna area marked.   SparkFun Products: SparkFun ADC Edison Block  SparkFun Power Edison Block  SparkFun Base Edison Block  SparkFun Dual H-Bridge Edison Block  SparkFun microSD Edison Block
GateName_1: G$1; SymbolName_1: EDISON_CONNECTOR; DeviceName: _MOUNTING_HOLES; DeviceSetName: EDISON_CONNECTOR_FULL; LibraryName: SparkFun-Connectors; Package: EDISON_DAUGHTER
footprint EDISON_DAUGHTER
pins: 1 GND@1 (io), 2 VSYS@1 (io), 3 USB_ID (io), 4 VSYS@2 (io), 5 GND@2 (io), 6 VSYS@3 (io), 7 MSIC_SLP_CLK (io), 8 3.3V@1 (io), 9 GND@3 (io), 10 3.3V@2 (io), 11 GND@4 (io), 12 1.8V (io), 13 GND@5 (io), 14 DCIN (io), 15 GND@6 (io), 16 USB_DP (io), 17 PWRBTN# (io), 18 USB_DN (io), 19 FAULT (io), 20 USB_VBUS (io), 21 PSW (io), 22 GP134_UART_2_RX (io), 23 V_VAT_BKUP (io), 24 GP44 (io), 25 GP165 (io), 26 GP45 (io), 27 GP135_UART_2_TX (io), 28 GP46 (io), 30 GP47 (io), 31 RCVR_MODE (io), 32 GP48 (io), 33 GP13_PWM1 (io), 34 GP49 (io), 35 GP12_PWM0 (io), 36 RESET_OUT# (io), 37 GP182_PWM2 (io), 39 GP183_PWM3 (io), 41 GP19_I2C_1_SCL (io), 42 GP15 (io), 43 GP20_I2C_1_SDA (io), 44 GP84_SD_CLK_FB (io), 45 GP27_I2C_6_SCL (io), 46 GP131_UART_1_TX (io), 47 GP28_I2C_6_SDA (io), 48 GP14 (io), 50 GP42_I2S_2_RXD (io), 51 GP111_SPI_2_FS1 (io), 52 GP40_I2S_2_CLK (io), 53 GP110_SPI_2_FS0 (io), 54 GP41_I2S_2_FS (io), 55 GP109_SPI_2_CLK (io), 56 GP43_I2S_2_TXD (io), 57 GP115_SPI_2_TXD (io), 58 GP78_SD_0_CLK (io), 59 GP114_SPI_2_RXD (io), 60 GP77_SD_0_CD# (io), 61 GP130_UART_1_RX (io), 62 GP79_SD_0_CMD (io), 63 GP129_UART_1_RTS (io), 64 GP82_SD_0_DAT2 (io), 65 GP128_UART_1_CTS (io), 66 GP80_SD_0_DAT0 (io), 67 OSC_CLK_OUT_0 (io), 68 GP83_SD_0_DAT3 (io), 69 FW_RCVR (io), 70 GP81_SD_0_DAT1 (io)

## EDISON_CONNECTOR_FULL_SOCKET
designator J?, comment Intel &reg; Edison Hirose Connectors     DF40 Series 70 pin connector 3mm headers and sockets used on the SparkFun Edison Blocks.    Edison Daughter package includes layout for the Edison module itself, including mounting holes and antenna area marked.   SparkFun Products: SparkFun ADC Edison Block  SparkFun Power Edison Block  SparkFun Base Edison Block  SparkFun Dual H-Bridge Edison Block  SparkFun microSD Edison Block
GateName_1: G$1; SymbolName_1: EDISON_CONNECTOR; DeviceName: _SOCKET; DeviceSetName: EDISON_CONNECTOR_FULL; PROD_ID: CONN-12247; LibraryName: SparkFun-Connectors; Package: DF40-XC-(X.X)-70DS-0.4V(51)
footprint DF40-XC-(X.X)-70DS-0.4V(51)
pins: 1 GND@1 (io), 2 VSYS@1 (io), 3 USB_ID (io), 4 VSYS@2 (io), 5 GND@2 (io), 6 VSYS@3 (io), 7 MSIC_SLP_CLK (io), 8 3.3V@1 (io), 9 GND@3 (io), 10 3.3V@2 (io), 11 GND@4 (io), 12 1.8V (io), 13 GND@5 (io), 14 DCIN (io), 15 GND@6 (io), 16 USB_DP (io), 17 PWRBTN# (io), 18 USB_DN (io), 19 FAULT (io), 20 USB_VBUS (io), 21 PSW (io), 22 GP134_UART_2_RX (io), 23 V_VAT_BKUP (io), 24 GP44 (io), 25 GP165 (io), 26 GP45 (io), 27 GP135_UART_2_TX (io), 28 GP46 (io), 30 GP47 (io), 31 RCVR_MODE (io), 32 GP48 (io), 33 GP13_PWM1 (io), 34 GP49 (io), 35 GP12_PWM0 (io), 36 RESET_OUT# (io), 37 GP182_PWM2 (io), 39 GP183_PWM3 (io), 41 GP19_I2C_1_SCL (io), 42 GP15 (io), 43 GP20_I2C_1_SDA (io), 44 GP84_SD_CLK_FB (io), 45 GP27_I2C_6_SCL (io), 46 GP131_UART_1_TX (io), 47 GP28_I2C_6_SDA (io), 48 GP14 (io), 50 GP42_I2S_2_RXD (io), 51 GP111_SPI_2_FS1 (io), 52 GP40_I2S_2_CLK (io), 53 GP110_SPI_2_FS0 (io), 54 GP41_I2S_2_FS (io), 55 GP109_SPI_2_CLK (io), 56 GP43_I2S_2_TXD (io), 57 GP115_SPI_2_TXD (io), 58 GP78_SD_0_CLK (io), 59 GP114_SPI_2_RXD (io), 60 GP77_SD_0_CD# (io), 61 GP130_UART_1_RX (io), 62 GP79_SD_0_CMD (io), 63 GP129_UART_1_RTS (io), 64 GP82_SD_0_DAT2 (io), 65 GP128_UART_1_CTS (io), 66 GP80_SD_0_DAT0 (io), 67 OSC_CLK_OUT_0 (io), 68 GP83_SD_0_DAT3 (io), 69 FW_RCVR (io), 70 GP81_SD_0_DAT1 (io)

## EM406
designator J?, comment EM406 GPS Connector Here is a six pin vertical 1.0mm pitch connector. It is useful if you need something very tiny as a connection. These are not the standard JST type connectors we use on most of our boards, but are actually the much smaller JST-SH type.    Here is the connector we sell at SparkFun: JST SH Vertical 6-Pin Connector - SMD (GPS-00579)  Datasheet      It was used on these SparkFun products: SparkFun GPS Breakout (BOB-11818)  SparkFun Weather Shield (DEV-12081)  And many, many other GPS related products.
GateName_1: G$1; PROD_ID: CONN-08249; SymbolName_1: EM406; LibraryName: SparkFun-Connectors; DeviceSetName: EM406; Package: 1X06-1MM; SF_ID: GPS-00579
footprint 1X06-1MM
pins: 1 GND1 (io), 2 VCC (io), 3 RX (io), 4 TX (io), 5 GND2 (io), 6 1PPS (io)

## EM408
designator J?, comment EM-408 GPS receiver connector This is the mating connector for the EM408 GPS receiver. The EM408 connects to the board via a cable. Note, this connector footprint does not include the outline of the receiver.    Here is the connector we sell at SparkFun: Connector Vertical SMD for EM408 (GPS-08288)  Datasheet      It was also used on this SparkFun product:  This connector is not on any currently live products, however it has been used on previously reitred products, so the package is proven.       Special note: You should include the "EM408_Outline" device in your schematic if you are to use the EM408 in your design.
GateName_1: G$1; PROD_ID: CONN-08528; SymbolName_1: EM408; LibraryName: SparkFun-Connectors; DeviceSetName: EM408; Package: 1X05_1MM; SF_ID: GPS-08288
footprint 1X05_1MM
pins: 1 EN (io), 2 GND (power), 3 RX (io), 4 TX (io), 5 VCC (power)

## GATOR
designator J?
GateName_1: G$1; SymbolName_1: MICRO_BIT_GATOR_CLIP; DeviceSetName: GATOR; LibraryName: SparkFun-Connectors; Package: GATOR
footprint GATOR
pins: P$1,2 P$1 (io)

## GATORGATOR_MINI
designator J?
GateName_1: G$1; SymbolName_1: MICRO_BIT_GATOR_CLIP; DeviceName: GATOR_MINI; DeviceSetName: GATOR; LibraryName: SparkFun-Connectors; Package: GATOR_MINI
footprint GATOR_MINI
pins: P$2 P$1 (io)

## I2C_STANDARD
designator J?, comment SparkFun I2C Standard Pinout Header    SparkFun has standardized on a pinout for all I2C based sensor breakouts.  This pinout allows I2C boards to be plugged directly into the headers on Arduino Uno compatible boards, and to be daisy chained easily.   Example SparkFun Products: SparkFun Atmospheric Sensor Breakout - BME280  SparkFun Altitude/Pressure Sensor Breakout - MPL3115A2  SparkFun TOF Range Finder Sensor - VL6180
GateName_1: G$1; SymbolName_1: I2C_STANDARD; LibraryName: SparkFun-Connectors; DeviceSetName: I2C_STANDARD; Package: 1X04
footprint 1X04
pins: 1 (power), 2 (power), 3, 4

## I2C_STANDARD_NO_SILK
designator J?, comment SparkFun I2C Standard Pinout Header    SparkFun has standardized on a pinout for all I2C based sensor breakouts.  This pinout allows I2C boards to be plugged directly into the headers on Arduino Uno compatible boards, and to be daisy chained easily.   Example SparkFun Products: SparkFun Atmospheric Sensor Breakout - BME280  SparkFun Altitude/Pressure Sensor Breakout - MPL3115A2  SparkFun TOF Range Finder Sensor - VL6180
GateName_1: G$1; SymbolName_1: I2C_STANDARD; DeviceName: _NO_SILK; LibraryName: SparkFun-Connectors; DeviceSetName: I2C_STANDARD; Package: 1X04_NO_SILK
footprint 1X04_NO_SILK
pins: 1 (power), 2 (power), 3, 4

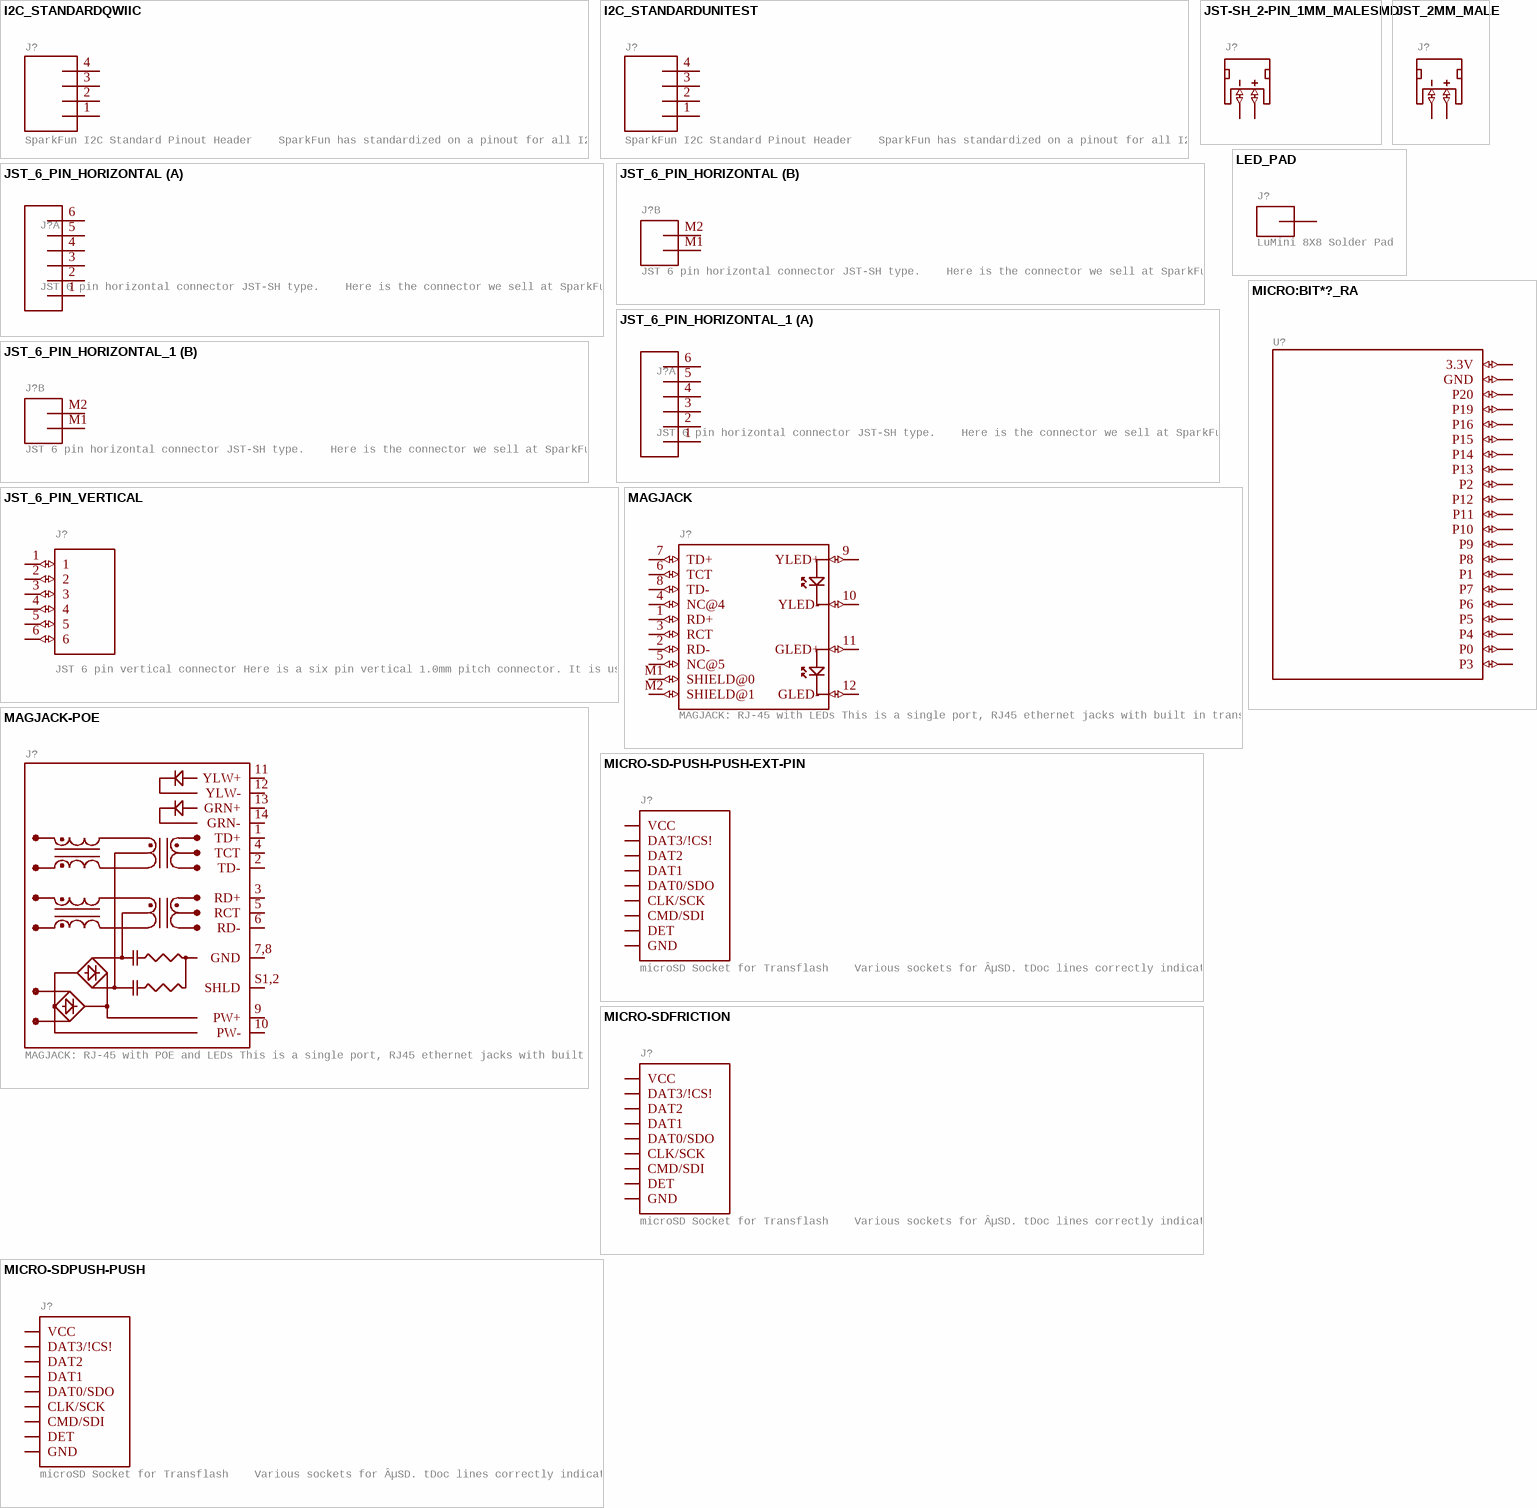
[diagram p16: symbols I2C_STANDARDQWIIC to MICRO:BIT*?_RA]

## I2C_STANDARDQWIIC
designator J?, comment SparkFun I2C Standard Pinout Header    SparkFun has standardized on a pinout for all I2C based sensor breakouts.  This pinout allows I2C boards to be plugged directly into the headers on Arduino Uno compatible boards, and to be daisy chained easily.   Example SparkFun Products: SparkFun Atmospheric Sensor Breakout - BME280  SparkFun Altitude/Pressure Sensor Breakout - MPL3115A2  SparkFun TOF Range Finder Sensor - VL6180
GateName_1: G$1; SymbolName_1: I2C_STANDARD; DeviceName: QWIIC; PROD_ID: CONN-13694; LibraryName: SparkFun-Connectors; DeviceSetName: I2C_STANDARD; Package: JST04_1MM_RA
footprint JST04_1MM_RA
pins: 1 (power), 2 (power), 3, 4

## I2C_STANDARDUNITEST
designator J?, comment SparkFun I2C Standard Pinout Header    SparkFun has standardized on a pinout for all I2C based sensor breakouts.  This pinout allows I2C boards to be plugged directly into the headers on Arduino Uno compatible boards, and to be daisy chained easily.   Example SparkFun Products: SparkFun Atmospheric Sensor Breakout - BME280  SparkFun Altitude/Pressure Sensor Breakout - MPL3115A2  SparkFun TOF Range Finder Sensor - VL6180
GateName_1: G$1; SymbolName_1: I2C_STANDARD; DeviceName: UNITEST; LibraryName: SparkFun-Connectors; DeviceSetName: I2C_STANDARD; Package: 1X04_UNITEST
footprint 1X04_UNITEST
pins: 1 (power), 2 (power), 3, 4

## JST-SH_2-PIN_1MM_MALESMD
designator J?, comment JST-SH 1MM MALE RA CONNECTOR Two pin, compact surface mount connector. Note, the reference layers show the positions where the mating cable housing fits into this connector. Solid = inserted. Dotted-lines = pre-insertion. Be sure to provide enough clearance. If this part lives on the edge of your PCB, then you're usually fine. If it lives anywhere inward on your design, don't place any parts under the reference drawings (or you'll have trouble plugging in the cable from the battery).     Datasheet      It was used on these SparkFun products: MyoWare 2.0 Power Shield (DEV-21868)  (value not drawn)
GateName_1: G$1; SymbolName_1: JST_2MM_MALE; DeviceName: SMD; DeviceSetName: JST-SH_2-PIN_1MM_MALE; PROD_ID: CONN-16684; LibraryName: SparkFun-Connectors; Package: JST-SH_02_1MM_RA_SMD
footprint JST-SH_02_1MM_RA_SMD
pins: 1 - (io), 2 + (io), NC1 PAD2 (io), NC2 PAD1 (io)

## JST_2MM_MALE
designator J?, comment JST 2MM MALE RA CONNECTOR Two pin, compact surface mount connector. Commonly used as a battery input connection point. We really like the solid locking feeling and high current rating on these small connectors. We use these all the time as battery connectors. Mates to single-cell LiPo batteries.    Here is the connector we sell at SparkFun: JST Right Angle Connector - White (PRT-08612)  Datasheet      It was used on these SparkFun products: SparkFun MOSFET Power Controller (PRT-11214)  SparkFun Battery Babysitter - LiPo Battery Manager (PRT-13777)  And many, many others that required a lipo battery connection.  (value not drawn)
GateName_1: G$1; SymbolName_1: JST_2MM_MALE; PROD_ID: CONN-11443; LibraryName: SparkFun-Connectors; DeviceSetName: JST_2MM_MALE; Package: JST-2-SMD; SF_ID: PRT-08612
footprint JST-2-SMD
pins: 1 - (io), 2 + (io), NC1 PAD1 (io), NC2 PAD2 (io)

## JST_6_PIN_HORIZONTAL
designator J?, comment JST 6 pin horizontal connector JST-SH type.    Here is the connector we sell at SparkFun: name (XXX-00000)  Datasheet      It was used on these SparkFun products: name (XXX-00000)  name (XXX-00000)
GateName_1: A; SymbolName_1: CONN_06; GateName_2: B; SymbolName_2: CONN_02; DeviceSetName: JST_6_PIN_HORIZONTAL; LibraryName: SparkFun-Connectors; Package: JST-6-SMD-HORI-1.0MM; PROD_ID: XXX-00000
footprint JST-6-SMD-HORI-1.0MM
part A pins: 1, 2, 3, 4, 5, 6
part B pins: M1 1, M2 2

## JST_6_PIN_HORIZONTAL_1
designator J?, comment JST 6 pin horizontal connector JST-SH type.    Here is the connector we sell at SparkFun: name (XXX-00000)  Datasheet      It was used on these SparkFun products: name (XXX-00000)  name (XXX-00000)
GateName_1: A; SymbolName_1: CONN_06; GateName_2: B; SymbolName_2: CONN_02; DeviceSetName: JST_6_PIN_HORIZONTAL; LibraryName: SparkFun-Connectors; Package: JST-6-SMD-HORI-1.0MM; PROD_ID: XXX-00000
footprint JST-6-SMD-HORI-1.0MM
part A pins: 1, 2, 3, 4, 5, 6
part B pins: M1 1, M2 2

## JST_6_PIN_VERTICAL
designator J?, comment JST 6 pin vertical connector Here is a six pin vertical 1.0mm pitch connector. It is useful if you need something very tiny as a connection. These are not the standard JST type connectors we use on most of our boards, but are actually the much smaller JST-SH type.    Here is the connector we sell at SparkFun: JST SH Vertical 6-Pin Connector - SMD (GPS-00579)  Datasheet      It was used on these SparkFun products: SparkFun GPS Breakout (BOB-11818)  SparkFun Weather Shield (DEV-12081)  And many, many other GPS related products.
GateName_1: G$1; SymbolName_1: JST_6_1MM_VERT; DeviceSetName: JST_6_PIN_VERTICAL; PROD_ID: CONN-08249; LibraryName: SparkFun-Connectors; Package: JST-6-SMD-VERT-1.0MM; SF_ID: GPS-00579
footprint JST-6-SMD-VERT-1.0MM
pins: 1 (io), 2 (io), 3 (io), 4 (io), 5 (io), 6 (io)

## LED_PAD
designator J?, comment LuMini 8X8 Solder Pad
GateName_1: G$1; SymbolName_1: CONN_01; DeviceSetName: LED_PAD; LibraryName: SparkFun-Connectors; Package: CIRCULARPAD
footprint CIRCULARPAD
pins: P$1,2 1